# EAGLE library part HUZZAH (library tobias)
Adafruit Huzzah ESP8266 Footprint Fotprint to use the Huzzah. NOT TESTED Info: https://learn.adafruit.com/adafruit-huzzah-esp8266-breakout/overview Based on https://github.com/adafruit/Adafruit-Huzzah-ESP8266-Basic-Breakout-PCB
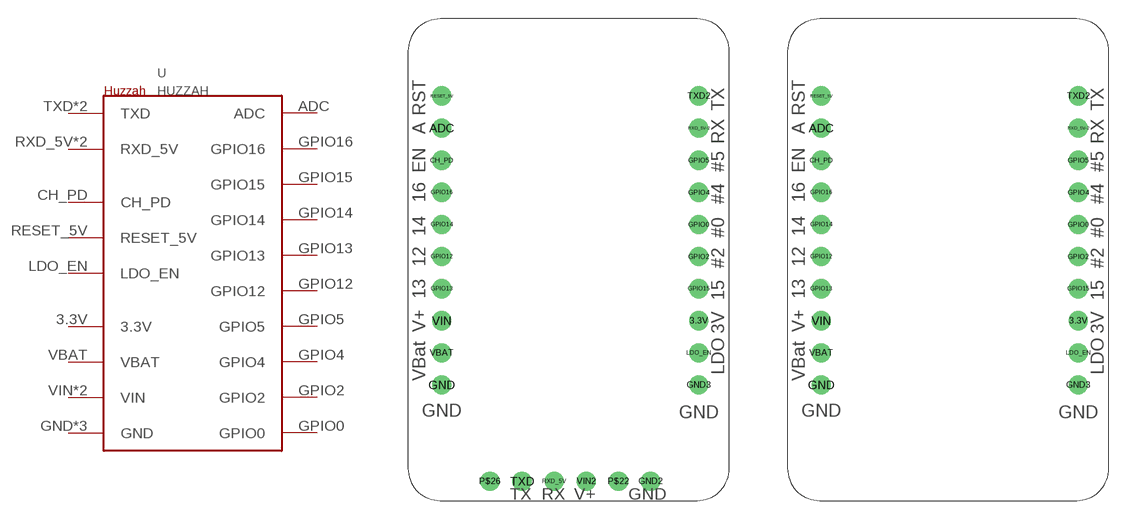
[diagram p0: symbol with the pads of HUZZAH-FULL; footprints HUZZAH-FULL, HUZZAH-NO_FTDI]

Designator prefix -

## HUZZAHFTDI  [HUZZAH-FULL]
3.3V  3.3V
ADC  ADC
CH_PD  CH_PD
GND  GND
GND2  GND
GND3  GND
GPIO0  GPIO0
GPIO2  GPIO2
GPIO4  GPIO4
GPIO5  GPIO5
GPIO12  GPIO12
GPIO13  GPIO13
GPIO14  GPIO14
GPIO15  GPIO15
GPIO16  GPIO16
LDO_EN  LDO_EN
RESET_5V  RESET_5V
RXD_5V  RXD_5V
RXD_5V-2  RXD_5V
TXD  TXD
TXD2  TXD
VBAT  VBAT
VIN  VIN
VIN2  VIN

## HUZZAHNOFTDINOFTDI  [HUZZAH-NO_FTDI]
3.3V  3.3V
ADC  ADC
CH_PD  CH_PD
GND  GND
GND3  GND
GPIO0  GPIO0
GPIO2  GPIO2
GPIO4  GPIO4
GPIO5  GPIO5
GPIO12  GPIO12
GPIO13  GPIO13
GPIO14  GPIO14
GPIO15  GPIO15
GPIO16  GPIO16
LDO_EN  LDO_EN
RESET_5V  RESET_5V
RXD_5V-2  RXD_5V
TXD2  TXD
VBAT  VBAT
VIN  VIN

## Footprint HUZZAH-FULL (pad centres in mm)
Includes all pads
drill 1.016: 3.3V 22.86,13.97; ADC 2.54,29.21; CH_PD 2.54,26.67; GND 2.54,8.89; GND2 19.05,1.27; GND3 22.86,8.89; GPIO0 22.86,21.59; GPIO2 22.86,19.05; GPIO4 22.86,24.13; GPIO5 22.86,26.67; GPIO12 2.54,19.05; GPIO13 2.54,16.51; GPIO14 2.54,21.59; GPIO15 22.86,16.51; GPIO16 2.54,24.13; LDO_EN 22.86,11.43; P$22 16.51,1.27; P$26 6.35,1.27; RESET_5V 2.54,31.75; RXD_5V 11.43,1.27; RXD_5V-2 22.86,29.21; TXD 8.89,1.27; TXD2 22.86,31.75; VBAT 2.54,11.43; VIN 2.54,13.97; VIN2 13.97,1.27

## Footprint HUZZAH-NO_FTDI (pad centres in mm)
Without Pads for FTDI
drill 1.016: 3.3V 22.86,13.97; ADC 2.54,29.21; CH_PD 2.54,26.67; GND 2.54,8.89; GND3 22.86,8.89; GPIO0 22.86,21.59; GPIO2 22.86,19.05; GPIO4 22.86,24.13; GPIO5 22.86,26.67; GPIO12 2.54,19.05; GPIO13 2.54,16.51; GPIO14 2.54,21.59; GPIO15 22.86,16.51; GPIO16 2.54,24.13; LDO_EN 22.86,11.43; RESET_5V 2.54,31.75; RXD_5V-2 22.86,29.21; TXD2 22.86,31.75; VBAT 2.54,11.43; VIN 2.54,13.97